# Altium footprint library gps_project_pcb_library.PcbLib: 41 footprints (part 1 of 3)
Each footprint in its own frame and in the unit in brackets; x right, y up, seen from the top. Pads: shape width x height; smd on the part's side, far side on the other; paste and mask are expansions set on the pad; w line width, h text height; cw(c..) or ccw(c..) is an arc to the next point about the centre after c.
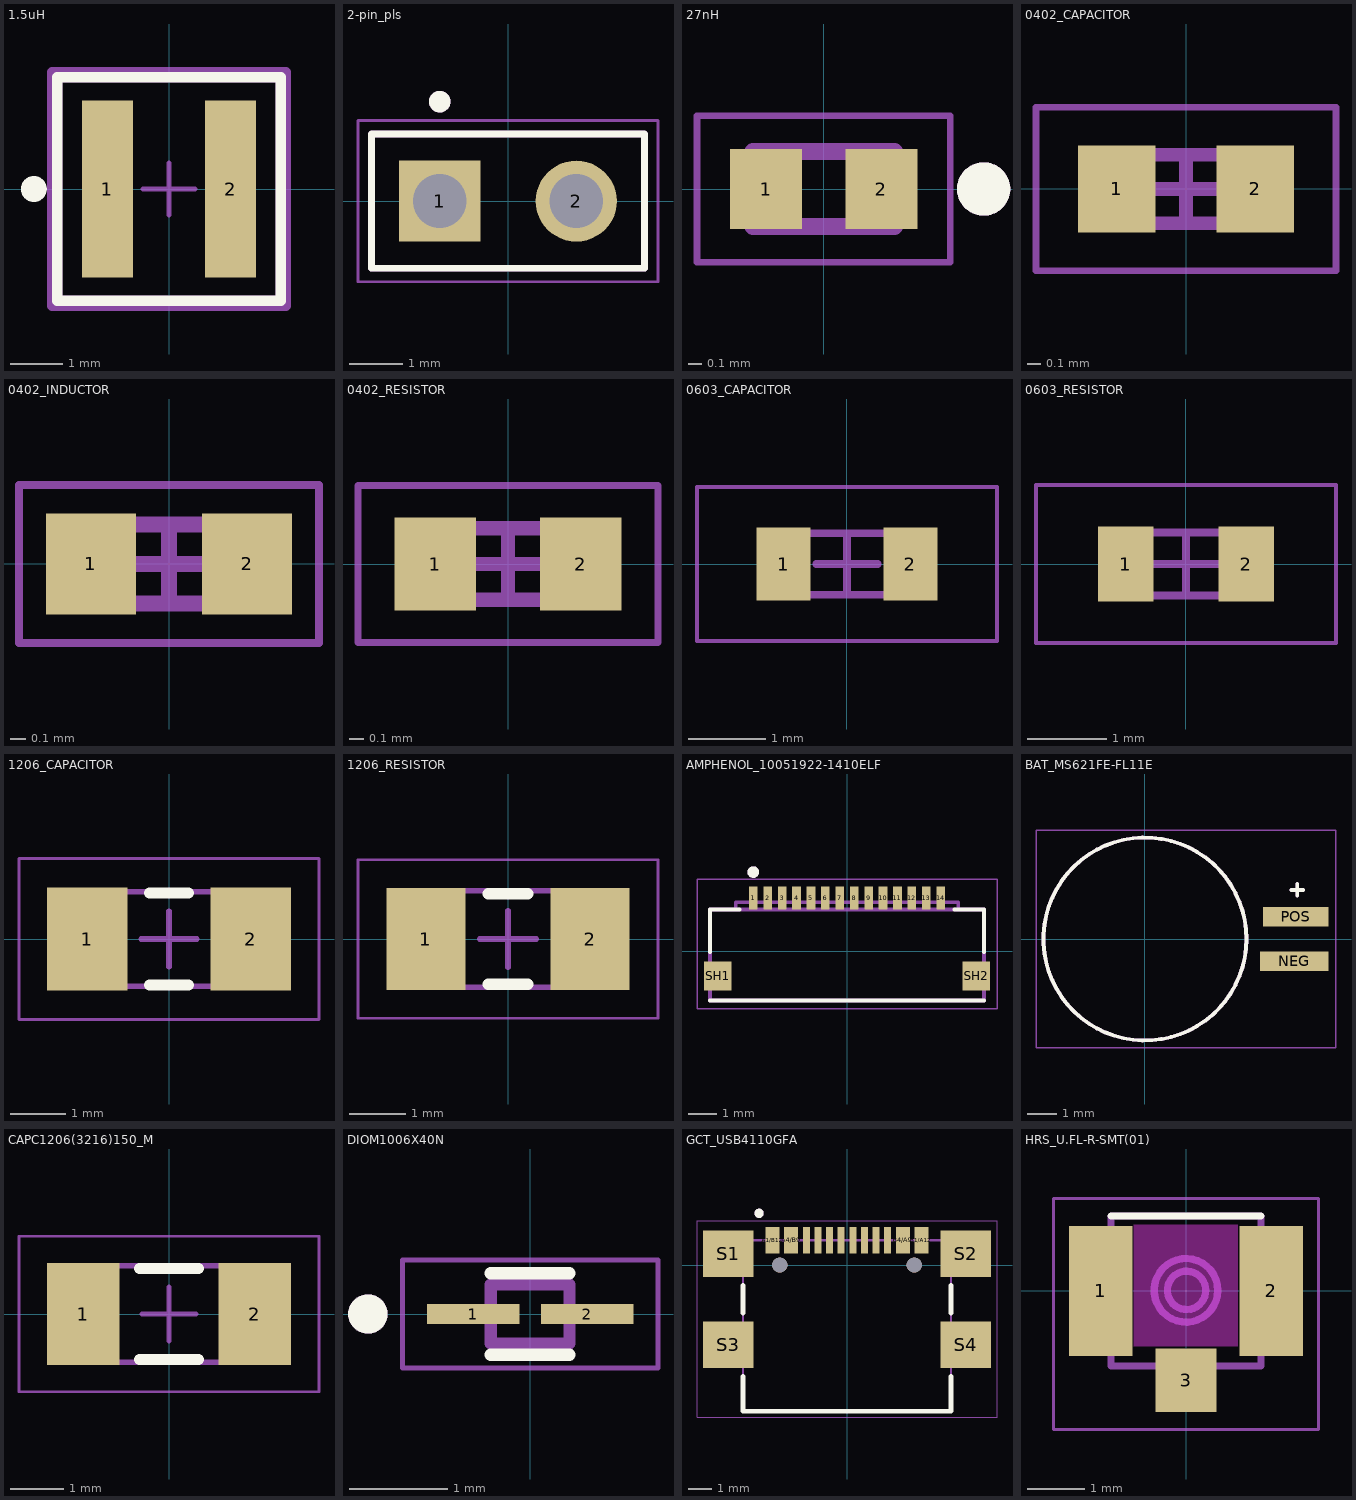
[diagram p0: the footprints below, top view; thin cyan lines are the x and y axes]

## 1.5uH [mm]
pads (2):
  rect 0.98x3.4 smd paste+0 mask+0: 1(-1.185,0) 2(1.185,0)
Top Overlay:
  circle w0.25: c-2.6,0 r0.125
  lines w0.2: -2.15,-2.15 2.15,-2.15 2.15,2.15 -2.15,2.15 -2.15,-2.15
Top 3D Body:
  lines w0.2: -2.15,-2.15 2.15,-2.15 2.15,2.15 -2.15,2.15 -2.15,-2.15
Top Courtyard:
  lines w0.2: -2.25,-2.25 2.25,-2.25 2.25,2.25 -2.25,2.25 -2.25,-2.25
Top Assembly:
  lines w0.2: -2.25,-2.25 2.25,-2.25 2.25,2.25 -2.25,2.25 -2.25,-2.25
  text ".Designator" at 0,0.188 h1
Top Component Center:
  lines w0.1: -0.5,0 0.5,0 ; 0,-0.5 0,0.5
3D body "Ind_Coilcraft_XFL4020-152MEC_eec.STEP": height 0.25, standoff 0, extent -2.25,-2.25 2.25,2.25

## 2-pin_pls [mm]
pads (2):
  rect 1.508x1.508 hole 1: 1(-1.27,0)
  round 1.508 hole 1: 2(1.27,0)
Top Overlay:
  circle w0.2: c-1.27,1.85 r0.1
  lines w0.127: -2.54,-1.25 -2.54,1.25 2.54,1.25 2.54,-1.25 -2.54,-1.25
Mechanical 13:
  circle w0.2: c-1.27,1.85 r0.1
  lines w0.127: -2.54,-1.25 -2.54,1.25 2.54,1.25 2.54,-1.25 -2.54,-1.25
Mechanical 15:
  lines w0.05: -2.79,-1.5 -2.79,1.5 2.79,1.5 2.79,-1.5 -2.79,-1.5
3D body "826646-2--3DModel-STEP-1.STEP": height 8.59, standoff -3.21, extent -2.54,-1.27 2.54,1.23

## 27nH [mm]
pads (2):
  rect 0.54x0.6 smd: 1(-0.432,0) 2(0.432,0)
Top Overlay:
  circle w0.2: c1.2,0 r0.1
Mechanical 13:
  circle w0.2: c1.2,0 r0.1
  lines w0.127: -0.53,-0.28 -0.53,0.28 0.53,0.28 0.53,-0.28 -0.53,-0.28
Mechanical 15:
  lines w0.05: -0.95,-0.55 -0.95,0.55 0.95,0.55 0.95,-0.55 -0.95,-0.55
3D body "LQG15HS27NJ02D.STEP": height 0.5, standoff 0, extent -0.506,-0.275 0.494,0.275

## 0402_CAPACITOR [mm]
height 0.6
pads (2):
  rect 0.57x0.64 smd: 1(-0.508,0) 2(0.508,0)
Top Courtyard:
  lines w0.05: -1.1,-0.6 -1.1,0.6 1.1,0.6 1.1,-0.6 -1.1,-0.6
  lines w0.1: -0.25,0 0.25,0 ; 0,-0.25 0,0.25
Top Assembly:
  lines w0.1: -0.5,-0.25 -0.5,0.25 0.5,0.25 0.5,-0.25 -0.5,-0.25
3D body: height 0.6, standoff 0, extent 0,-0.25 0,0.25
3D body: height 0.6, standoff 0, extent -0.5,-0.25 0,0.25
3D body: height 0.6, standoff 0, extent 0,-0.25 0.5,0.25

## 0402_INDUCTOR [mm] "Chip Inductor, 2-Leads, Body 1,00x0,50mm, IPC Medium Density"
height 0.6
pads (2):
  rect 0.57x0.64 smd: 1(-0.495,0) 2(0.495,0)
Mechanical 13:
  lines w0.1: -0.5,-0.25 -0.5,0.25 0.5,0.25 0.5,-0.25 -0.5,-0.25
Mechanical 15:
  lines w0.05: -0.95,-0.5 -0.95,0.5 0.95,0.5 0.95,-0.5 -0.95,-0.5
  lines w0.1: -0.25,0 0.25,0 ; 0,-0.25 0,0.25
3D body "INDC1005X06N.step": height 0.6, standoff 0, extent -0.5,-0.25 0.5,0.25

## 0402_RESISTOR [mm]
height 0.6
pads (2):
  rect 0.57x0.65 smd: 1(-0.508,0) 2(0.508,0)
Top Courtyard:
  lines w0.05: -1.05,-0.55 1.05,-0.55 1.05,0.55 -1.05,0.55 -1.05,-0.55
  lines w0.1: -0.25,0 0.25,0 ; 0,-0.25 0,0.25
Top Assembly:
  lines w0.1: -0.5,-0.25 0.5,-0.25 0.5,0.25 -0.5,0.25 -0.5,-0.25
3D body: height 0.6, standoff 0, extent 0,-0.25 0.5,0.25
3D body: height 0.6, standoff 0, extent -0.5,-0.25 0,0.25
3D body: height 0.6, standoff 0, extent 0,-0.25 0,0.25

## 0603_CAPACITOR [mm] "Chip Capacitor, 2-Leads, Body 1,60x0,80mm, IPC Low Density"
height 0.6
pads (2):
  rect 0.7x0.95 smd: 1(-0.825,0) 2(0.825,0)
Top Courtyard:
  lines w0.05: -1.95,-1 -1.95,1 1.95,1 1.95,-1 -1.95,-1
  lines w0.1: -0.4,0 0.4,0 ; 0,-0.4 0,0.4
Top Assembly:
  lines w0.1: -0.8,-0.4 -0.8,0.4 0.8,0.4 0.8,-0.4 -0.8,-0.4
3D body "0603_CAPACITOR.step": height 0.6, standoff 0, extent -0.8,-0.4 0.8,0.4

## 0603_RESISTOR [mm] "Chip Resistor, 2-Leads, Body 1,60x0,80mm, IPC Low Density"
height 0.6
pads (2):
  rect 0.7x0.95 smd: 1(-0.762,0) 2(0.762,0)
Top Courtyard:
  lines w0.05: -1.9,-1 1.9,-1 1.9,1 -1.9,1 -1.9,-1
  lines w0.1: -0.4,0 0.4,0 ; 0,-0.4 0,0.4
Top Assembly:
  lines w0.1: -0.8,-0.4 0.8,-0.4 0.8,0.4 -0.8,0.4 -0.8,-0.4
3D body "0603_RESISTOR.step": height 0.6, standoff 0, extent -0.8,-0.4 0.8,0.4

## 1206_CAPACITOR [mm]
height 1
pads (2):
  rect 1.45x1.85 smd: 1(-1.475,0) 2(1.475,0)
Top Overlay:
  lines w0.2: -0.35,-0.825 0.35,-0.825 ; -0.35,0.825 0.35,0.825
Top Courtyard:
  lines w0.05: -2.7,-1.45 2.7,-1.45 2.7,1.45 -2.7,1.45 -2.7,-1.45
  lines w0.1: -0.5,0 0.5,0 ; 0,-0.5 0,0.5
Top Assembly:
  lines w0.1: -1.6,-0.85 1.6,-0.85 1.6,0.85 -1.6,0.85 -1.6,-0.85
3D body "1206_CAPACITOR.step": height 1, standoff 0, extent -1.6,-0.85 1.6,0.85

## 1206_RESISTOR [mm]
height 1
pads (2):
  rect 1.4x1.8 smd: 1(-1.45,0) 2(1.45,0)
Top Overlay:
  lines w0.2: -0.35,-0.8 0.35,-0.8 ; -0.35,0.8 0.35,0.8
Top Courtyard:
  lines w0.05: -2.65,-1.4 -2.65,1.4 2.65,1.4 2.65,-1.4 -2.65,-1.4
  lines w0.1: -0.5,0 0.5,0 ; 0,-0.5 0,0.5
Top Assembly:
  lines w0.1: -1.6,-0.85 -1.6,0.85 1.6,0.85 1.6,-0.85 -1.6,-0.85
3D body: height 1, standoff 0, extent -1.1,-0.85 1.1,0.85
3D body: height 1, standoff 0, extent -1.6,-0.85 -1.1,0.85
3D body: height 1, standoff 0, extent 1.1,-0.85 1.6,0.85

## AMPHENOL_10051922-1410ELF [mm]
height 3.37
pads (16):
  rect 0.3x0.8 smd mask+0.05: 1(-3.25,1.85) 2(-2.75,1.85) 3(-2.25,1.85) 4(-1.75,1.85) 5(-1.25,1.85) 6(-0.75,1.85) 7(-0.25,1.85) 8(0.25,1.85) 9(0.75,1.85) 10(1.25,1.85) 11(1.75,1.85) 12(2.25,1.85) 13(2.75,1.85) 14(3.25,1.85)
  rect 0.95x1 smd: SH1(-4.475,-0.85) SH2(4.475,-0.85)
Top Overlay:
  circle w0.2: c-3.25,2.75 r0.1
  lines w0.127: -4.75,-1.7 4.75,-1.7 ; -4.75,-0.03 -4.75,1.45 -3.72,1.45 ; 3.72,1.45 4.75,1.45 4.75,-0.03
Mechanical 13:
  circle w0.2: c-3.25,2.75 r0.1
  lines w0.127: -3.86,1.45 -3.86,1.7 3.86,1.7 3.86,1.45 ; -3.86,1.45 3.86,1.45 ; -3.86,1.45 -4.75,1.45 -4.75,-1.7 4.75,-1.7 4.75,1.45 3.86,1.45
Mechanical 15:
  lines w0.05: -5.2,-1.99 5.2,-1.99 5.2,2.5 -5.2,2.5 -5.2,-1.99
3D body "step_temp.STEP": height 1.27, standoff -0.03, extent -4.75,-1.651 4.75,2.099

## BAT_MS621FE-FL11E [mm]
height 2.8
pads (2):
  rect 2.3x0.65 smd: NEG(5,-0.75)
  rect 2.2x0.65 smd: POS(5.05,0.75)
Top Overlay:
  circle w0.127: c0,0 r3.4
  lines w0.127: 4.9,1.646 5.3,1.646 ; 5.1,1.446 5.1,1.846
Mechanical 13:
  circle w0.127: c0,0 r3.4
  lines w0.127: 4.9,1.646 5.3,1.646 ; 5.1,1.446 5.1,1.846
Mechanical 15:
  lines w0.05: -3.65,-3.65 -3.65,3.65 6.4,3.65 6.4,-3.65 -3.65,-3.65
3D body "step_temp.STEP": height 2.8, standoff 0, extent -3.4,-3.4 5.9,3.4

## CAPC1206(3216)150_M [mm] "Chip Capacitor, Body 3.2x1.6mm, Height 1.5mm, IPC Low Density"
height 1.5
pads (2):
  rect 1.35x1.9 smd: 1(-1.6,0) 2(1.6,0)
Top Overlay:
  lines w0.2: -0.55,-0.85 0.55,-0.85 ; -0.55,0.85 0.55,0.85
Mechanical 13:
  lines w0.1: -1.7,-0.9 1.7,-0.9 1.7,0.9 -1.7,0.9 -1.7,-0.9
Mechanical 15:
  lines w0.05: -2.8,-1.45 2.8,-1.45 2.8,1.45 -2.8,1.45 -2.8,-1.45
  lines w0.1: -0.5,0 0.5,0 ; 0,-0.5 0,0.5
3D body: height 1.5, standoff 0, extent 1.2,-0.9 1.7,0.9
3D body: height 1.5, standoff 0, extent -1.7,-0.9 -1.2,0.9
3D body: height 1.5, standoff 0, extent -1.2,-0.9 1.2,0.9

## DIOM1006X40N [mm]
pads (2):
  rect 0.94x0.2 smd: 1(-0.58,0) 2(0.58,0)
Top Overlay:
  circle w0.2: c-1.651,0 r0.1
  lines w0.127: -0.4,-0.415 0.4,-0.415 ; -0.4,0.415 0.4,0.415
Mechanical 13:
  circle w0.2: c-1.651,0 r0.1
  lines w0.127: -0.4,-0.3 0.4,-0.3 0.4,0.3 -0.4,0.3 -0.4,-0.3
Mechanical 15:
  lines w0.05: -1.3,-0.55 -1.3,0.55 1.3,0.55 1.3,-0.55 -1.3,-0.55
3D body "step_temp.STEP": height 0.4, standoff 0, extent -0.5,-0.3 0.5,0.3

## GCT_USB4110GFA [mm]
pads (18):
  rect 0.6x1.15 smd: A1/B12(-3.2,1.075) A4/B9(-2.4,1.075) B1/A12(3.2,1.075) B4/A9(2.4,1.075)
  rect 0.3x1.15 smd: A5(-1.25,1.075) A6(-0.25,1.075) A7(0.25,1.075) A8(1.25,1.075) B5(1.75,1.075) B6(0.75,1.075) B7(-0.75,1.075) B8(-1.75,1.075)
  rect 2.18x2 smd: S1(-5.11,0.5) S2(5.11,0.5) S3(-5.11,-3.43) S4(5.11,-3.43)
  round 0.65 hole 0.65 unplated: ""(-2.89,0) ""(2.89,0)
Top Overlay:
  circle w0.2: c-3.78,2.23 r0.1
  lines w0.2: -4.47,-4.79 -4.47,-6.28 4.47,-6.28 4.47,-4.79 ; -4.47,-2.07 -4.47,-0.86 ; 4.47,-2.07 4.47,-0.86
Mechanical 13:
  circle w0.2: c-3.78,2.23 r0.1
  lines w0.1: -4.47,-6.28 4.47,-6.28 4.47,1.07 -4.47,1.07 -4.47,-6.28
Mechanical 15:
  lines w0.05: -6.45,-6.53 -6.45,1.9 6.45,1.9 6.45,-6.53 -6.45,-6.53
3D body "step_temp.STEP": height 3.26, standoff -0.63, extent -5.65,-6.28 5.65,1.42

## HRS_U.FL-R-SMT(01) [mm]
pads (3):
  rect 1.1x2.25 smd: 1(-1.475,0) 2(1.475,0)
  rect 1.05x1.1 smd: 3(0,-1.55)
Top Overlay:
  lines w0.127: -1.3,1.3 1.3,1.3
Keep-Out Layer:
  region: 0.9,-0.963 -0.903,-0.963 -0.903,1.15 0.9,1.15
Mechanical 13:
  circle w0.127: c0.01,0.01 r0.332
  circle w0.127: c0,0.01 r0.552
  lines w0.127: -1.33,0.88 -1.33,0.87 -1.57,0.87 -1.57,-0.87 -1.3,-0.87 ; 1.34,-0.87 1.57,-0.87 1.57,0.87 1.38,0.87 ; -1.3,-0.87 -1.3,-1.3 1.3,-1.3 1.3,1.3 -1.3,1.3 -1.3,-0.87
Mechanical 14:
  lines w0.127: 1.34,-0.91 1.34,-0.9
Mechanical 15:
  lines w0.05: -2.3,-2.4 -2.3,1.6 2.3,1.6 2.3,-2.4 -2.3,-2.4
3D body "step_temp.STEP": height 1.25, standoff 0, extent -1.5,-1.55 1.5,1.55